# Altium integrated library National Semiconductor Comparator.IntLib: 110 symbols (part 1 of 3)
Pins are listed as number, name and electrical type; pins without a type are passive.

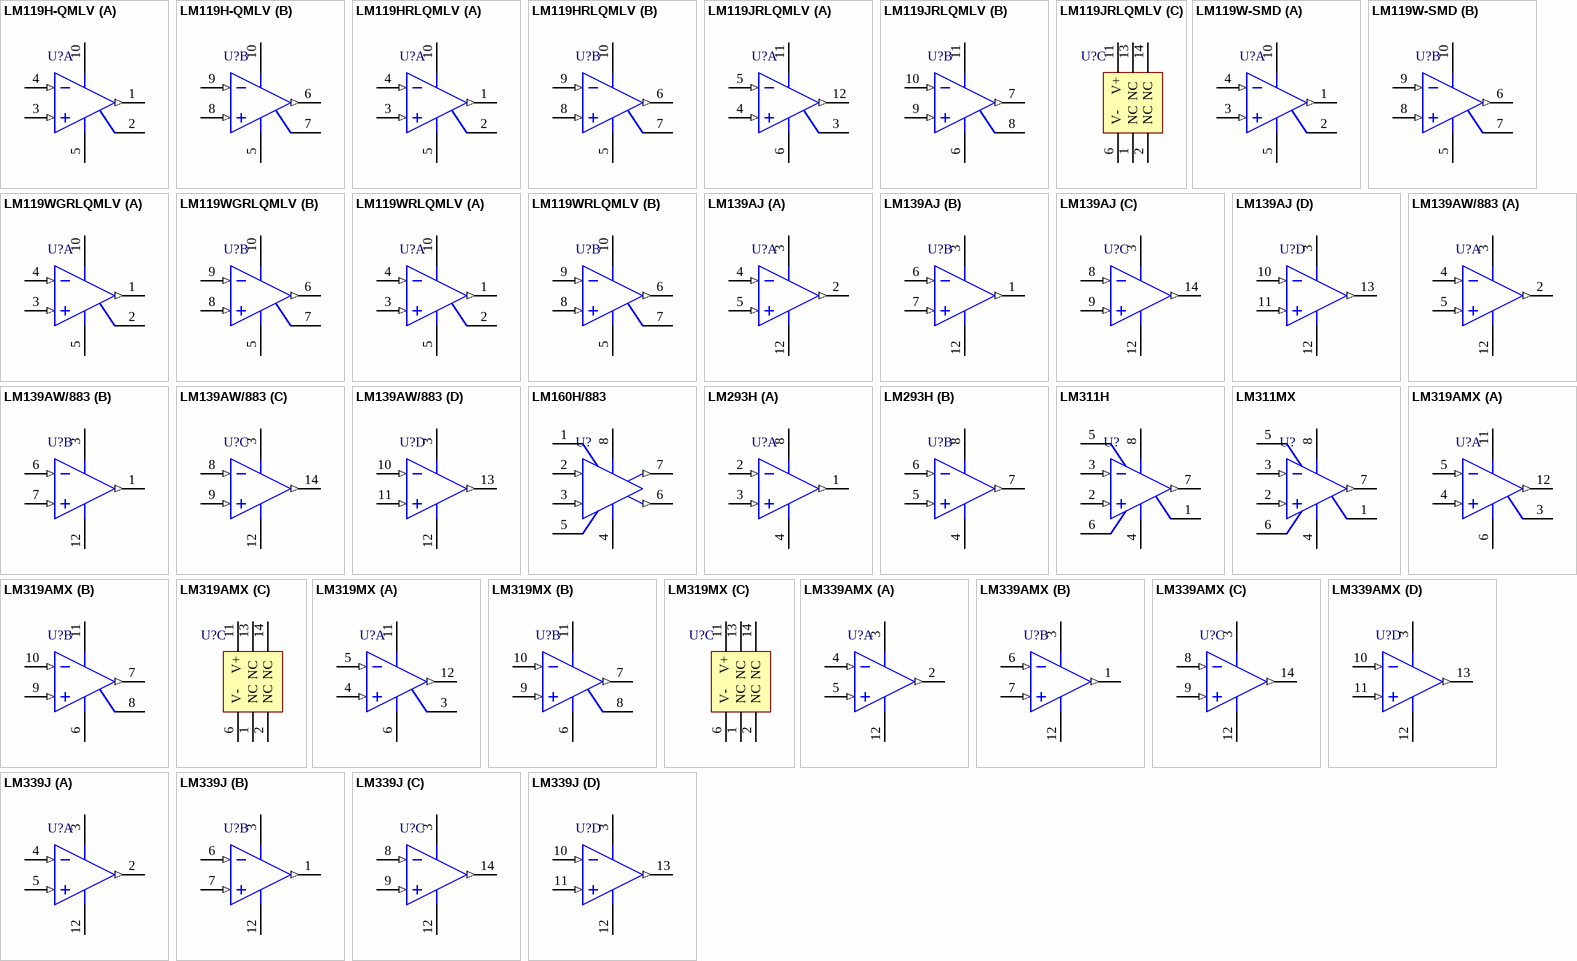
[diagram p0: symbols LM119H-QMLV to LM339J]

## LM119H-QMLV
designator U?
High Speed Dual Comparator, 10-pin TO-100; PartNumber: LM119H-QMLV; Manufacturer: National Semiconductor; PackageTopMarking: NSZSSXXYYA LM119H-QV Q*5962-9679801VIA; PowerWise: N; High-Reliability: Y; DatasheetVersion: Aug-2000; PackageVersion: revG, Nov-2008; PackageReference: H10C; PackageDescription: Metal Can, TO-100, 10 Lead, .230in Dia, P.C.; RoHS: N; PinCount: 10; CompType: Comparator; ComponentLink1Description: Manufacturer URL; ComponentLink1URL: http://www.national.com/; ComponentLink2Description: LM119 Datasheet; ComponentLink2URL: http://www.national.com/ds/LM/LM119QML.pdf; ComponentLink3Description: LM119 Web Page; ComponentLink3URL: http://www.national.com/pf/LM/LM119.html; ComponentLink4Description: H10C Package Page; ComponentLink4URL: http://www.national.com/packaging/folders/h10c.html
footprint H10C (Can; 10 Leads; Pin Circle Dia. 5.84 mm; Lead Dia. 0.48 mm (max))
pins on every part: 5 V- (power), 10 V+ (power)
part A pins: 1 OUT1 (out), 2 GND1 (power), 3 IN1+ (in), 4 IN1- (in)
part B pins: 6 OUT2 (out), 7 GND2 (power), 8 IN2+ (in), 9 IN2- (in)

## LM119HRLQMLV
designator U?
High Speed Dual Comparator, 10-pin TO-100; PartNumber: LM119HRLQMLV; Manufacturer: National Semiconductor; PackageTopMarking: NSZSSXXYYA LM119HRLQV Q*5962R9679802VIA; PowerWise: N; High-Reliability: Y; DatasheetVersion: Aug-2000; PackageVersion: revG, Nov-2008; PackageReference: H10C; PackageDescription: Metal Can, TO-100, 10 Lead, .230in Dia, P.C.; RoHS: N; PinCount: 10; CompType: Comparator; ComponentLink1Description: Manufacturer URL; ComponentLink1URL: http://www.national.com/; ComponentLink2Description: LM119 Datasheet; ComponentLink2URL: http://www.national.com/ds/LM/LM119QML.pdf; ComponentLink3Description: LM119 Web Page; ComponentLink3URL: http://www.national.com/pf/LM/LM119.html; ComponentLink4Description: H10C Package Page; ComponentLink4URL: http://www.national.com/packaging/folders/h10c.html
footprint H10C (Can; 10 Leads; Pin Circle Dia. 5.84 mm; Lead Dia. 0.48 mm (max))
pins on every part: 5 V- (power), 10 V+ (power)
part A pins: 1 OUT1 (out), 2 GND1 (power), 3 IN1+ (in), 4 IN1- (in)
part B pins: 6 OUT2 (out), 7 GND2 (power), 8 IN2+ (in), 9 IN2- (in)

## LM119JRLQMLV
designator U?
High Speed Dual Comparator, 14-pin CerDIP; PartNumber: LM119JRLQMLV; Manufacturer: National Semiconductor; PackageTopMarking: NSZSSXXYYA*LM119JRLQV Q*5962R9679802VCA; PowerWise: N; High-Reliability: Y; DatasheetVersion: Aug-2000; PackageVersion: revJ, Jul-2002; PackageReference: J14A; PackageDescription: Cerdip, .400 x .310in Body, 14 Lead, .300in Centers, .100in Pitch; RoHS: N; PinCount: 14; CompType: Comparator; ComponentLink1Description: Manufacturer URL; ComponentLink1URL: http://www.national.com/; ComponentLink2Description: LM119 Datasheet; ComponentLink2URL: http://www.national.com/ds/LM/LM119QML.pdf; ComponentLink3Description: LM119 Web Page; ComponentLink3URL: http://www.national.com/pf/LM/LM119.html; ComponentLink4Description: J14A Package Page; ComponentLink4URL: http://www.national.com/packaging/folders/j14a.html
footprint J14A (DIP, 14-Leads, Row Spacing 7.62mm, Pitch 2.54mm, Body 19.56x6.73mm)
pins on every part: 6 V- (power), 11 V+ (power)
part A pins: 3 GND1 (power), 4 IN1+ (in), 5 IN1- (in), 12 OUT1 (out)
part B pins: 7 OUT2 (out), 8 GND2 (power), 9 IN2+ (in), 10 IN2- (in)
part C pins: 1 NC, 2 NC, 13 NC, 14 NC

## LM119W-SMD
designator U?
High Speed Dual Comparator, 10-pin CerPACK; PartNumber: LM119W-SMD; Manufacturer: National Semiconductor; PackageTopMarking: NSZSSXXYY*A Q*8601401HA*27014; PowerWise: N; High-Reliability: Y; DatasheetVersion: Aug-2000; PackageVersion: revH, Sep-2003; PackageReference: W10A; PackageDescription: Cerpack, .270 x .241 x .067in Body, 10 Lead, .050in Pitch; RoHS: N; PinCount: 10; CompType: Comparator; Code_JEDEC: MS-033-AA; ComponentLink1Description: Manufacturer URL; ComponentLink1URL: http://www.national.com/; ComponentLink2Description: LM119 Datasheet; ComponentLink2URL: http://www.national.com/ds/LM/LM119QML.pdf; ComponentLink3Description: LM119 Web Page; ComponentLink3URL: http://www.national.com/pf/LM/LM119.html; ComponentLink4Description: W10A Package Page; ComponentLink4URL: http://www.national.com/packaging/folders/w10a.html
footprint W10A (DFP; 10 Leads; Body 6.9 x 6.9 mm (LxW max); Pitch 1.27 mm)
pins on every part: 5 V- (power), 10 V+ (power)
part A pins: 1 OUT1 (out), 2 GND1 (power), 3 IN1+ (in), 4 IN1- (in)
part B pins: 6 OUT2 (out), 7 GND2 (power), 8 IN2+ (in), 9 IN2- (in)

## LM119WGRLQMLV
designator U?
High Speed Dual Comparator, 10-pin CerPACK; PartNumber: LM119WGRLQMLV; Manufacturer: National Semiconductor; PackageTopMarking: NS5962R96*79802VXA*LM119WGR*LQV Q*ZSSXXYYA; PowerWise: N; High-Reliability: Y; DatasheetVersion: Aug-2000; PackageVersion: revF, Oct-2008; PackageReference: WG10A; PackageDescription: Cerpack, .270 x .241 x .070in, 10 Lead, .050in Pitch, Gull Wing; RoHS: N; PinCount: 10; CompType: Comparator; ComponentLink1Description: Manufacturer URL; ComponentLink1URL: http://www.national.com/; ComponentLink2Description: LM119 Datasheet; ComponentLink2URL: http://www.national.com/ds/LM/LM119QML.pdf; ComponentLink3Description: LM119 Web Page; ComponentLink3URL: http://www.national.com/pf/LM/LM119.html; ComponentLink4Description: WG10A Package Page; ComponentLink4URL: http://www.national.com/packaging/folders/wg10a.html
footprint WG10A_N (CERPACK, 10-Leads, Body 6.9x6.3mm, Pitch 1.27mm, IPC Medium Density)
footprint WG10A_L (CERPACK, 10-Leads, Body 6.9x6.3mm, Pitch 1.27mm, IPC High Density)
footprint WG10A_M (CERPACK, 10-Leads, Body 6.9x6.3mm, Pitch 1.27mm, IPC Low Density)
pins on every part: 5 V- (power), 10 V+ (power)
part A pins: 1 OUT1 (out), 2 GND1 (power), 3 IN1+ (in), 4 IN1- (in)
part B pins: 6 OUT2 (out), 7 GND2 (power), 8 IN2+ (in), 9 IN2- (in)

## LM119WRLQMLV
designator U?
High Speed Dual Comparator, 10-pin CerPACK; PartNumber: LM119WRLQMLV; Manufacturer: National Semiconductor; PackageTopMarking: NS5962R96*79802VHA*LM119WRL*QV Q*ZSSXXYYA; PowerWise: N; High-Reliability: Y; DatasheetVersion: Aug-2000; PackageVersion: revH, Sep-2003; PackageReference: W10A; PackageDescription: Cerpack, .270 x .241 x .067in Body, 10 Lead, .050in Pitch; RoHS: N; PinCount: 10; CompType: Comparator; Code_JEDEC: MS-033-AA; ComponentLink1Description: Manufacturer URL; ComponentLink1URL: http://www.national.com/; ComponentLink2Description: LM119 Datasheet; ComponentLink2URL: http://www.national.com/ds/LM/LM119QML.pdf; ComponentLink3Description: LM119 Web Page; ComponentLink3URL: http://www.national.com/pf/LM/LM119.html; ComponentLink4Description: W10A Package Page; ComponentLink4URL: http://www.national.com/packaging/folders/w10a.html
footprint W10A (DFP; 10 Leads; Body 6.9 x 6.9 mm (LxW max); Pitch 1.27 mm)
pins on every part: 5 V- (power), 10 V+ (power)
part A pins: 1 OUT1 (out), 2 GND1 (power), 3 IN1+ (in), 4 IN1- (in)
part B pins: 6 OUT2 (out), 7 GND2 (power), 8 IN2+ (in), 9 IN2- (in)

## LM139AJ
designator U?
Low Power Low Offset Voltage Quad Comparator, 14-pin CerDIP; PartNumber: LM139AJ; Manufacturer: National Semiconductor; PackageTopMarking: NSUZXYYTT*LM139AJ; PowerWise: N; High-Reliability: Y; DatasheetVersion: Mar-2004; PackageVersion: revJ, Jul-2002; PackageReference: J14A; PackageDescription: Cerdip, .400 x .310in Body, 14 Lead, .300in Centers, .100in Pitch; RoHS: N; PinCount: 14; CompType: Comparator; ComponentLink1Description: Manufacturer URL; ComponentLink1URL: http://www.national.com/; ComponentLink2Description: LM139A Datasheet; ComponentLink2URL: http://www.national.com/ds/LM/LM139.pdf; ComponentLink3Description: LM139A Web Page; ComponentLink3URL: http://www.national.com/pf/LM/LM139A.html; ComponentLink4Description: J14A Package Page; ComponentLink4URL: http://www.national.com/packaging/folders/j14a.html
footprint J14A (DIP, 14-Leads, Row Spacing 7.62mm, Pitch 2.54mm, Body 19.56x6.73mm)
pins on every part: 3 V+ (power), 12 GND (power)
part A pins: 2 OUT1 (out), 4 IN1- (in), 5 IN1+ (in)
part B pins: 1 OUT2 (out), 6 IN2- (in), 7 IN2+ (in)
part C pins: 8 IN3- (in), 9 IN3+ (in), 14 OUT3 (out)
part D pins: 10 IN4- (in), 11 IN4+ (in), 13 OUT4 (out)

## LM139AW/883
designator U?
Low Power Low Offset Voltage Quad Comparator, 14 pin CERPACK; PartNumber: LM139AW/883; Manufacturer: National Semiconductor; PackageTopMarking: NSZSSXXYYA*LM139AW/883*Q; PowerWise: N; High-Reliability: Y; DatasheetVersion: Apr-2008; PackageVersion: revP, Jun-2004; PackageReference: W14B; PackageDescription: Cerpack, .390 x .250 x .070in Body, 14 Lead, .050in Pitch; RoHS: N; PinCount: 14; CompType: Comparator; Code_JEDEC: MO-092-AB; ComponentLink1Description: Manufacturer URL; ComponentLink1URL: http://www.national.com/; ComponentLink2Description: LM139A Datasheet; ComponentLink2URL: http://www.national.com/ds/LM/LM139AQML.pdf; ComponentLink3Description: LM139A Web Page; ComponentLink3URL: http://www.national.com/pf/LM/LM139A.html; ComponentLink4Description: W14B Package Page; ComponentLink4URL: http://www.national.com/packaging/folders/w14b.html
footprint W14B (DFP; 14 Leads; Body 9.8 x 7.1 mm (LxW max); Pitch 1.27 mm)
pins on every part: 3 V+ (power), 12 GND (power)
part A pins: 2 OUT1 (out), 4 IN1- (in), 5 IN1+ (in)
part B pins: 1 OUT2 (out), 6 IN2- (in), 7 IN2+ (in)
part C pins: 8 IN3- (in), 9 IN3+ (in), 14 OUT3 (out)
part D pins: 10 IN4- (in), 11 IN4+ (in), 13 OUT4 (out)

## LM160H/883
designator U?
High Speed Differential Comparator, 8-pin TO-99; PartNumber: LM160H/883; Manufacturer: National Semiconductor; PackageTopMarking: NS ZSSXXYYA LM160H/883 Q*5962-8767401GA; PowerWise: N; High-Reliability: Y; DatasheetVersion: Aug-2000; PackageVersion: revF, Jun-1995; PackageReference: H08C; PackageDescription: Metal Can, TO-99, 8 Lead, .200 Dia., P.C.; RoHS: N; PinCount: 8; CompType: Comparator; Code_JEDEC: TO-99; ComponentLink1Description: Manufacturer URL; ComponentLink1URL: http://www.national.com/; ComponentLink2Description: LM160 Datasheet; ComponentLink2URL: http://www.national.com/ds/LM/LM160QML.pdf; ComponentLink3Description: LM160 Web Page; ComponentLink3URL: http://www.national.com/pf/LM/LM160.html; ComponentLink4Description: H08C Package Page; ComponentLink4URL: http://www.national.com/packaging/folders/h08c.html
footprint H08C (Can; 8 Leads; Pin Circle Dia. 5.08 mm; Lead Dia. 0.48 mm (max))
pins: 1 NC, 2 IN2 (in), 3 IN1 (in), 4 V- (power), 5 GND (power), 6 OUT2 (out), 7 OUT1 (out), 8 V+ (power)

## LM293H
designator U?
Low Power Low Offset Voltage Dual Comparator, 8-pin TO-99; PartNumber: LM293H; Manufacturer: National Semiconductor; PackageTopMarking: NSZXYTTE# LM293H; PowerWise: N; High-Reliability: Y; DatasheetVersion: Aug-2002; PackageVersion: revF, Jun-1995; PackageReference: H08C; PackageDescription: Metal Can, TO-99, 8 Lead, .200 Dia., P.C.; RoHS: N; PinCount: 8; CompType: Comparator; Code_JEDEC: TO-99; ComponentLink1Description: Manufacturer URL; ComponentLink1URL: http://www.national.com/; ComponentLink2Description: LM293 Datasheet; ComponentLink2URL: http://www.national.com/ds/LM/LM293.pdf; ComponentLink3Description: LM293 Web Page; ComponentLink3URL: http://www.national.com/pf/LM/LM293.html; ComponentLink4Description: H08C Package Page; ComponentLink4URL: http://www.national.com/packaging/folders/h08c.html
footprint H08C (Can; 8 Leads; Pin Circle Dia. 5.08 mm; Lead Dia. 0.48 mm (max))
pins on every part: 4 GND (power), 8 V+ (power)
part A pins: 1 OUTA (out), 2 INA- (in), 3 INA+ (in)
part B pins: 5 INB+ (in), 6 INB- (in), 7 OUTB (out)

## LM311H
designator U?
Voltage Comparator, 8-pin TO-99; PartNumber: LM311H; Manufacturer: National Semiconductor; PackageTopMarking: NSZXYTTE# LM311H; PowerWise: N; High-Reliability: Y; DatasheetVersion: Jan-2001; PackageVersion: revF, Jun-1995; PackageReference: H08C; PackageDescription: Metal Can, TO-99, 8 Lead, .200 Dia., P.C.; RoHS: N; PinCount: 8; CompType: Comparator; Code_JEDEC: TO-99; ComponentLink1Description: Manufacturer URL; ComponentLink1URL: http://www.national.com/; ComponentLink2Description: LM311 Datasheet; ComponentLink2URL: http://www.national.com/ds/LM/LM311.pdf; ComponentLink3Description: LM311 Web Page; ComponentLink3URL: http://www.national.com/pf/LM/LM311.html; ComponentLink4Description: H08C Package Page; ComponentLink4URL: http://www.national.com/packaging/folders/h08c.html
footprint H08C (Can; 8 Leads; Pin Circle Dia. 5.08 mm; Lead Dia. 0.48 mm (max))
pins: 1 GND (power), 2 IN+ (in), 3 IN- (in), 4 V- (power), 5 BAL, 6 BAL/STB, 7 OUT (out), 8 V+ (power)

## LM311MX
designator U?
Voltage Comparator, 8-pin Narrow SOIC; PartNumber: LM311MX; Manufacturer: National Semiconductor; PackageTopMarking: NSZXTT*LM*311M; PowerWise: N; High-Reliability: Y; DatasheetVersion: Jan-2001; PackageVersion: revM, May-2009; PackageReference: M08A; PackageDescription: SOIC Narrow, 4.9 x 3.9 x 1.45mm, 8 Lead, 1.27mm Pitch; RoHS: N; PinCount: 8; CompType: Comparator; Code_JEDEC: MS-012-AA; Code_IPC: SOIC127P600-8; ComponentLink1Description: Manufacturer URL; ComponentLink1URL: http://www.national.com/; ComponentLink2Description: LM311 Datasheet; ComponentLink2URL: http://www.national.com/ds/LM/LM311.pdf; ComponentLink3Description: LM311 Web Page; ComponentLink3URL: http://www.national.com/pf/LM/LM311.html; ComponentLink4Description: M08A Package Page; ComponentLink4URL: http://www.national.com/packaging/folders/m08a.html
footprint M08A_N (SOIC, 8-Leads, Body 4.9x3.9mm, Pitch 1.27mm, IPC Medium Density)
footprint M08A_L (SOIC, 8-Leads, Body 4.9x3.9mm, Pitch 1.27mm, IPC High Density)
footprint M08A_M (SOIC, 8-Leads, Body 4.9x3.9mm, Pitch 1.27mm, IPC Low Density)
pins: 1 GND (power), 2 IN+ (in), 3 IN- (in), 4 V- (power), 5 BAL, 6 BAL/STB, 7 OUT (out), 8 V+ (power)

## LM319AMX
designator U?
High Speed Dual Comparator, 14-pin Narrow SOIC; PartNumber: LM319AMX; Manufacturer: National Semiconductor; PackageTopMarking: NSUZXYTTE#*LM319AM; PowerWise: N; High-Reliability: Y; DatasheetVersion: Aug-2000; PackageVersion: revJ, Jan-1996; PackageReference: M14A; PackageDescription: Molded Package S.O., .150in Wide, 14 Lead; RoHS: N; PinCount: 14; CompType: Comparator; Code_JEDEC: MS-012AB; Code_IPC: SOIC127P600-14; ComponentLink1Description: Manufacturer URL; ComponentLink1URL: http://www.national.com/; ComponentLink2Description: LM319 Datasheet; ComponentLink2URL: http://www.national.com/ds/LM/LM319.pdf; ComponentLink3Description: LM319 Web Page; ComponentLink3URL: http://www.national.com/pf/LM/LM319.html; ComponentLink4Description: M14A Package Page; ComponentLink4URL: http://www.national.com/packaging/folders/m14a.html
footprint M14A_N (SOIC, 14-Leads, Body 8.6x3.9mm, Pitch 1.27mm, IPC Medium Density)
footprint M14A_L (SOIC, 14-Leads, Body 8.6x3.9mm, Pitch 1.27mm, IPC High Density)
footprint M14A_M (SOIC, 14-Leads, Body 8.6x3.9mm, Pitch 1.27mm, IPC Low Density)
pins on every part: 6 V- (power), 11 V+ (power)
part A pins: 3 GND1 (power), 4 IN1+ (in), 5 IN1- (in), 12 OUT1 (out)
part B pins: 7 OUT2 (out), 8 GND2 (power), 9 IN2+ (in), 10 IN2- (in)
part C pins: 1 NC, 2 NC, 13 NC, 14 NC

## LM319MX
designator U?
High Speed Dual Comparator, 14-pin Narrow SOIC; PartNumber: LM319MX; Manufacturer: National Semiconductor; PackageTopMarking: NSUZXYTTE#*LM319M; PowerWise: N; High-Reliability: Y; DatasheetVersion: Aug-2000; PackageVersion: revJ, Jan-1996; PackageReference: M14A; PackageDescription: Molded Package S.O., .150in Wide, 14 Lead; RoHS: N; PinCount: 14; CompType: Comparator; Code_JEDEC: MS-012AB; Code_IPC: SOIC127P600-14; ComponentLink1Description: Manufacturer URL; ComponentLink1URL: http://www.national.com/; ComponentLink2Description: LM319 Datasheet; ComponentLink2URL: http://www.national.com/ds/LM/LM319.pdf; ComponentLink3Description: LM319 Web Page; ComponentLink3URL: http://www.national.com/pf/LM/LM319.html; ComponentLink4Description: M14A Package Page; ComponentLink4URL: http://www.national.com/packaging/folders/m14a.html
footprint M14A_N (SOIC, 14-Leads, Body 8.6x3.9mm, Pitch 1.27mm, IPC Medium Density)
footprint M14A_L (SOIC, 14-Leads, Body 8.6x3.9mm, Pitch 1.27mm, IPC High Density)
footprint M14A_M (SOIC, 14-Leads, Body 8.6x3.9mm, Pitch 1.27mm, IPC Low Density)
pins on every part: 6 V- (power), 11 V+ (power)
part A pins: 3 GND1 (power), 4 IN1+ (in), 5 IN1- (in), 12 OUT1 (out)
part B pins: 7 OUT2 (out), 8 GND2 (power), 9 IN2+ (in), 10 IN2- (in)
part C pins: 1 NC, 2 NC, 13 NC, 14 NC

## LM339AMX
designator U?
Low Power Low Offset Voltage Quad Comparator, 14-pin Narrow SOIC; PartNumber: LM339AMX; Manufacturer: National Semiconductor; PackageTopMarking: NSUZXYTTE#*LM339AM; PowerWise: N; High-Reliability: Y; DatasheetVersion: Mar-2004; PackageVersion: revJ, Jan-1996; PackageReference: M14A; PackageDescription: Molded Package S.O., .150in Wide, 14 Lead; RoHS: N; PinCount: 14; CompType: Comparator; Code_JEDEC: MS-012AB; Code_IPC: SOIC127P600-14; ComponentLink1Description: Manufacturer URL; ComponentLink1URL: http://www.national.com/; ComponentLink2Description: LM339 Datasheet; ComponentLink2URL: http://www.national.com/ds/LM/LM339.pdf; ComponentLink3Description: LM339 Web Page; ComponentLink3URL: http://www.national.com/pf/LM/LM339.html; ComponentLink4Description: M14A Package Page; ComponentLink4URL: http://www.national.com/packaging/folders/m14a.html
footprint M14A_N (SOIC, 14-Leads, Body 8.6x3.9mm, Pitch 1.27mm, IPC Medium Density)
footprint M14A_L (SOIC, 14-Leads, Body 8.6x3.9mm, Pitch 1.27mm, IPC High Density)
footprint M14A_M (SOIC, 14-Leads, Body 8.6x3.9mm, Pitch 1.27mm, IPC Low Density)
pins on every part: 3 V+ (power), 12 GND (power)
part A pins: 2 OUT1 (out), 4 IN1- (in), 5 IN1+ (in)
part B pins: 1 OUT2 (out), 6 IN2- (in), 7 IN2+ (in)
part C pins: 8 IN3- (in), 9 IN3+ (in), 14 OUT3 (out)
part D pins: 10 IN4- (in), 11 IN4+ (in), 13 OUT4 (out)

## LM339J
designator U?
Low Power Low Offset Voltage Quad Comparator, 14-pin CerDIP; PartNumber: LM339J; Manufacturer: National Semiconductor; PackageTopMarking: NSUZXYYTT*LM339J; PowerWise: N; High-Reliability: Y; DatasheetVersion: Mar-2004; PackageVersion: revJ, Jul-2002; PackageReference: J14A; PackageDescription: Cerdip, .400 x .310in Body, 14 Lead, .300in Centers, .100in Pitch; RoHS: N; PinCount: 14; CompType: Comparator; ComponentLink1Description: Manufacturer URL; ComponentLink1URL: http://www.national.com/; ComponentLink2Description: LM339 Datasheet; ComponentLink2URL: http://www.national.com/ds/LM/LM339.pdf; ComponentLink3Description: LM339 Web Page; ComponentLink3URL: http://www.national.com/pf/LM/LM339.html; ComponentLink4Description: J14A Package Page; ComponentLink4URL: http://www.national.com/packaging/folders/j14a.html
footprint J14A (DIP, 14-Leads, Row Spacing 7.62mm, Pitch 2.54mm, Body 19.56x6.73mm)
pins on every part: 3 V+ (power), 12 GND (power)
part A pins: 2 OUT1 (out), 4 IN1- (in), 5 IN1+ (in)
part B pins: 1 OUT2 (out), 6 IN2- (in), 7 IN2+ (in)
part C pins: 8 IN3- (in), 9 IN3+ (in), 14 OUT3 (out)
part D pins: 10 IN4- (in), 11 IN4+ (in), 13 OUT4 (out)

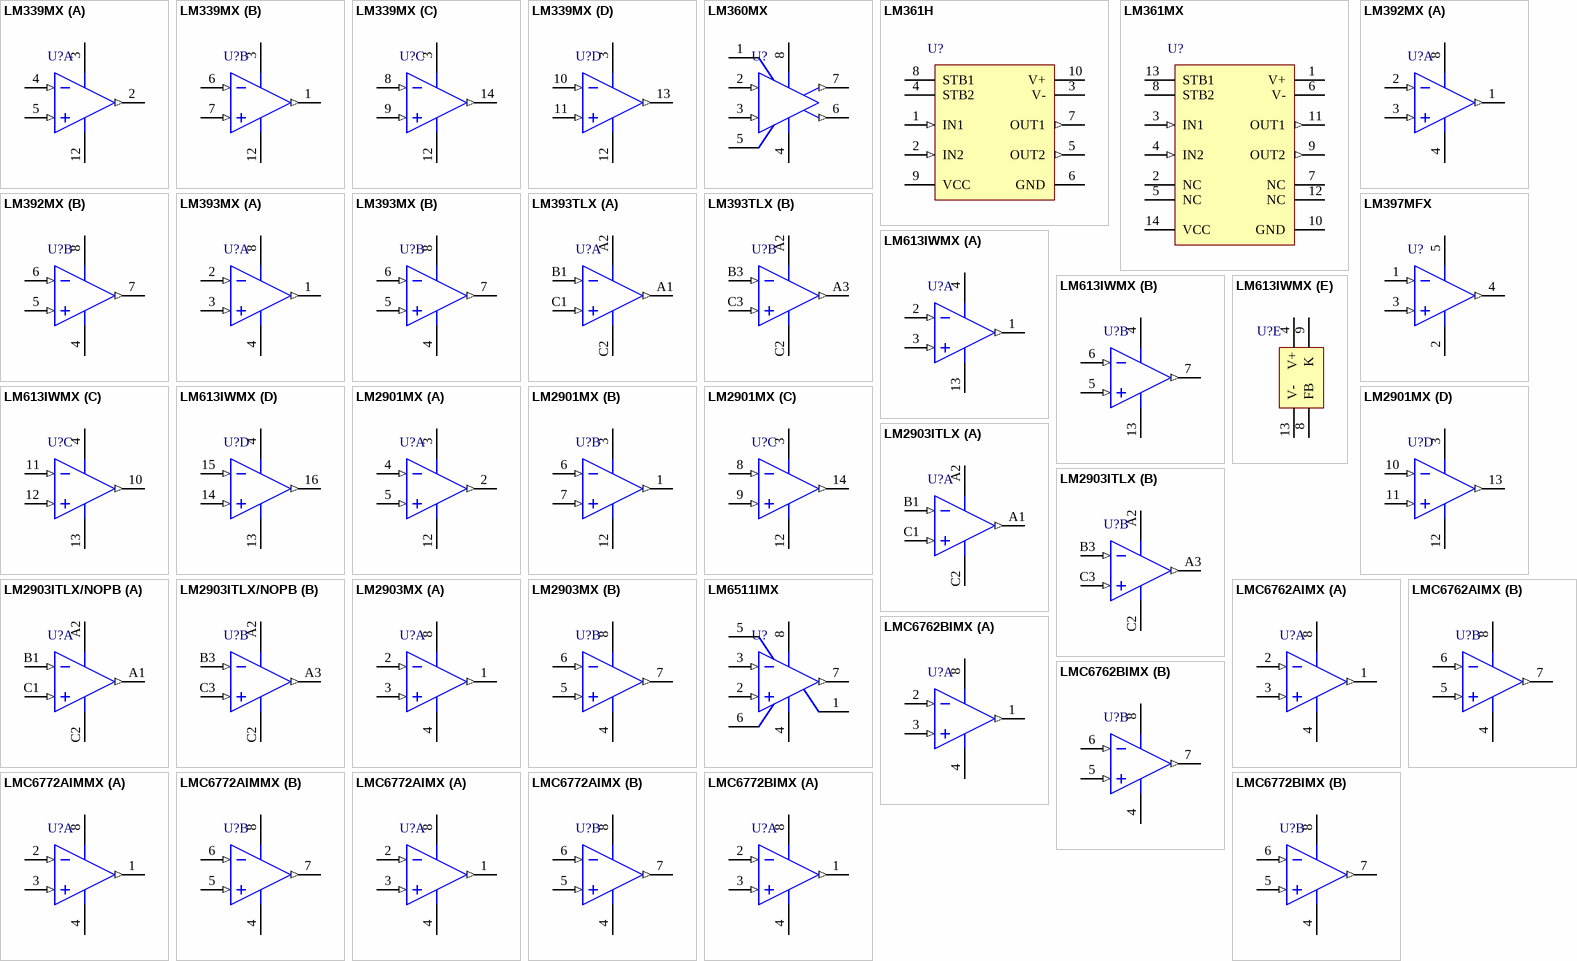
[diagram p1: symbols LM339MX to LMC6772BIMX]

## LM339MX
designator U?
Low Power Low Offset Voltage Quad Comparator, 14-pin Narrow SOIC; PartNumber: LM339MX; Manufacturer: National Semiconductor; PackageTopMarking: NSUZXYTTE#*LM339M; PowerWise: N; High-Reliability: Y; DatasheetVersion: Mar-2004; PackageVersion: revJ, Jan-1996; PackageReference: M14A; PackageDescription: Molded Package S.O., .150in Wide, 14 Lead; RoHS: N; PinCount: 14; CompType: Comparator; Code_JEDEC: MS-012AB; Code_IPC: SOIC127P600-14; ComponentLink1Description: Manufacturer URL; ComponentLink1URL: http://www.national.com/; ComponentLink2Description: LM339 Datasheet; ComponentLink2URL: http://www.national.com/ds/LM/LM339.pdf; ComponentLink3Description: LM339 Web Page; ComponentLink3URL: http://www.national.com/pf/LM/LM339.html; ComponentLink4Description: M14A Package Page; ComponentLink4URL: http://www.national.com/packaging/folders/m14a.html
footprint M14A_N (SOIC, 14-Leads, Body 8.6x3.9mm, Pitch 1.27mm, IPC Medium Density)
footprint M14A_L (SOIC, 14-Leads, Body 8.6x3.9mm, Pitch 1.27mm, IPC High Density)
footprint M14A_M (SOIC, 14-Leads, Body 8.6x3.9mm, Pitch 1.27mm, IPC Low Density)
pins on every part: 3 V+ (power), 12 GND (power)
part A pins: 2 OUT1 (out), 4 IN1- (in), 5 IN1+ (in)
part B pins: 1 OUT2 (out), 6 IN2- (in), 7 IN2+ (in)
part C pins: 8 IN3- (in), 9 IN3+ (in), 14 OUT3 (out)
part D pins: 10 IN4- (in), 11 IN4+ (in), 13 OUT4 (out)

## LM360MX
designator U?
High Speed Differential Comparator, 8-pin Narrow SOIC; PartNumber: LM360MX; Manufacturer: National Semiconductor; PackageTopMarking: NSZXTT*LM*360M; PowerWise: N; High-Reliability: Y; DatasheetVersion: Aug-2000; PackageVersion: revM, May-2009; PackageReference: M08A; PackageDescription: SOIC Narrow, 4.9 x 3.9 x 1.45mm, 8 Lead, 1.27mm Pitch; RoHS: N; PinCount: 8; CompType: Comparator; Code_JEDEC: MS-012-AA; Code_IPC: SOIC127P600-8; ComponentLink1Description: Manufacturer URL; ComponentLink1URL: http://www.national.com/; ComponentLink2Description: LM360 Datasheet; ComponentLink2URL: http://www.national.com/ds/LM/LM360.pdf; ComponentLink3Description: LM360 Web Page; ComponentLink3URL: http://www.national.com/pf/LM/LM360.html; ComponentLink4Description: M08A Package Page; ComponentLink4URL: http://www.national.com/packaging/folders/m08a.html
footprint M08A_N (SOIC, 8-Leads, Body 4.9x3.9mm, Pitch 1.27mm, IPC Medium Density)
footprint M08A_L (SOIC, 8-Leads, Body 4.9x3.9mm, Pitch 1.27mm, IPC High Density)
footprint M08A_M (SOIC, 8-Leads, Body 4.9x3.9mm, Pitch 1.27mm, IPC Low Density)
pins: 1 NC, 2 IN2 (in), 3 IN1 (in), 4 V- (power), 5 GND (power), 6 OUT2 (out), 7 OUT1 (out), 8 V+ (power)

## LM361H
designator U?
High Speed Differential Comparator, 10-pin TO-100; PartNumber: LM361H; Manufacturer: National Semiconductor; PackageTopMarking: NSZXYTTE# LM361H; PowerWise: N; High-Reliability: Y; DatasheetVersion: Aug-2000; PackageVersion: revG, Nov-2008; PackageReference: H10C; PackageDescription: Metal Can, TO-100, 10 Lead, .230in Dia, P.C.; RoHS: N; PinCount: 10; CompType: Comparator; ComponentLink1Description: Manufacturer URL; ComponentLink1URL: http://www.national.com/; ComponentLink2Description: LM361 Datasheet; ComponentLink2URL: http://www.national.com/ds/LM/LM361.pdf; ComponentLink3Description: LM361 Web Page; ComponentLink3URL: http://www.national.com/pf/LM/LM361.html; ComponentLink4Description: H10C Package Page; ComponentLink4URL: http://www.national.com/packaging/folders/h10c.html
footprint H10C (Can; 10 Leads; Pin Circle Dia. 5.84 mm; Lead Dia. 0.48 mm (max))
pins: 1 IN1 (in), 2 IN2 (in), 3 V- (power), 4 STB2 (power), 5 OUT2 (out), 6 GND (power), 7 OUT1 (out), 8 STB1 (power), 9 VCC (power), 10 V+ (power)

## LM361MX
designator U?
High Speed Differential Comparator, 14-pin Narrow SOIC; PartNumber: LM361MX; Manufacturer: National Semiconductor; PackageTopMarking: NSUZXYTTE#*LM361M; PowerWise: N; High-Reliability: Y; DatasheetVersion: Aug-2000; PackageVersion: revJ, Jan-1996; PackageReference: M14A; PackageDescription: Molded Package S.O., .150in Wide, 14 Lead; RoHS: N; PinCount: 14; CompType: Comparator; Code_JEDEC: MS-012AB; Code_IPC: SOIC127P600-14; ComponentLink1Description: Manufacturer URL; ComponentLink1URL: http://www.national.com/; ComponentLink2Description: LM361 Datasheet; ComponentLink2URL: http://www.national.com/ds/LM/LM361.pdf; ComponentLink3Description: LM361 Web Page; ComponentLink3URL: http://www.national.com/pf/LM/LM361.html; ComponentLink4Description: M14A Package Page; ComponentLink4URL: http://www.national.com/packaging/folders/m14a.html
footprint M14A_N (SOIC, 14-Leads, Body 8.6x3.9mm, Pitch 1.27mm, IPC Medium Density)
footprint M14A_L (SOIC, 14-Leads, Body 8.6x3.9mm, Pitch 1.27mm, IPC High Density)
footprint M14A_M (SOIC, 14-Leads, Body 8.6x3.9mm, Pitch 1.27mm, IPC Low Density)
pins: 1 V+ (power), 2 NC, 3 IN1 (in), 4 IN2 (in), 5 NC, 6 V- (power), 7 NC, 8 STB2 (power), 9 OUT2 (out), 10 GND (power), 11 OUT1 (out), 12 NC, 13 STB1 (power), 14 VCC (power)

## LM392MX
designator U?
Low Power Operational Amplifier/Voltage Comparator, 8-pin Narrow SOIC; PartNumber: LM392MX; Manufacturer: National Semiconductor; PackageTopMarking: NSZXTT*LM392*M; PowerWise: N; High-Reliability: Y; DatasheetVersion: Aug-2000; PackageVersion: revM, May-2009; PackageReference: M08A; PackageDescription: SOIC Narrow, 4.9 x 3.9 x 1.45mm, 8 Lead, 1.27mm Pitch; RoHS: N; PinCount: 8; CompType: Comparator; Code_JEDEC: MS-012-AA; Code_IPC: SOIC127P600-8; ComponentLink1Description: Manufacturer URL; ComponentLink1URL: http://www.national.com/; ComponentLink2Description: LM392 Datasheet; ComponentLink2URL: http://www.national.com/ds/LM/LM392.pdf; ComponentLink3Description: LM392 Web Page; ComponentLink3URL: http://www.national.com/pf/LM/LM392.html; ComponentLink4Description: M08A Package Page; ComponentLink4URL: http://www.national.com/packaging/folders/m08a.html
footprint M08A_N (SOIC, 8-Leads, Body 4.9x3.9mm, Pitch 1.27mm, IPC Medium Density)
footprint M08A_L (SOIC, 8-Leads, Body 4.9x3.9mm, Pitch 1.27mm, IPC High Density)
footprint M08A_M (SOIC, 8-Leads, Body 4.9x3.9mm, Pitch 1.27mm, IPC Low Density)
pins on every part: 4 GND (power), 8 V+ (power)
part A pins: 1 OUTA (out), 2 INA- (in), 3 INA+ (in)
part B pins: 5 INB+ (in), 6 INB- (in), 7 OUTB (out)

## LM393MX
designator U?
Low Power Low Offset Voltage Dual Comparator, 8-pin Narrow SOIC; PartNumber: LM393MX; Manufacturer: National Semiconductor; PackageTopMarking: NSZXTT*LM*393M; PowerWise: N; High-Reliability: Y; DatasheetVersion: Aug-2002; PackageVersion: revM, May-2009; PackageReference: M08A; PackageDescription: SOIC Narrow, 4.9 x 3.9 x 1.45mm, 8 Lead, 1.27mm Pitch; RoHS: N; PinCount: 8; CompType: Comparator; Code_JEDEC: MS-012-AA; Code_IPC: SOIC127P600-8; ComponentLink1Description: Manufacturer URL; ComponentLink1URL: http://www.national.com/; ComponentLink2Description: LM393 Datasheet; ComponentLink2URL: http://www.national.com/ds/LM/LM393.pdf; ComponentLink3Description: LM393 Web Page; ComponentLink3URL: http://www.national.com/pf/LM/LM393.html; ComponentLink4Description: M08A Package Page; ComponentLink4URL: http://www.national.com/packaging/folders/m08a.html
footprint M08A_N (SOIC, 8-Leads, Body 4.9x3.9mm, Pitch 1.27mm, IPC Medium Density)
footprint M08A_L (SOIC, 8-Leads, Body 4.9x3.9mm, Pitch 1.27mm, IPC High Density)
footprint M08A_M (SOIC, 8-Leads, Body 4.9x3.9mm, Pitch 1.27mm, IPC Low Density)
pins on every part: 4 GND (power), 8 V+ (power)
part A pins: 1 OUTA (out), 2 INA- (in), 3 INA+ (in)
part B pins: 5 INB+ (in), 6 INB- (in), 7 OUTB (out)

## LM393TLX
designator U?
Low Power Low Offset Voltage Dual Comparator, 8-pin Micro SMD; PartNumber: LM393TLX; Manufacturer: National Semiconductor; PackageTopMarking: XVC*I 02; PowerWise: Y; DatasheetVersion: Aug-2002; PackageVersion: revC, Jan-2004; PackageReference: TLA08AAA; PackageDescription: Thin Micro SMD, 8 Bump (Large), 0.5mm Pitch; RoHS: Y; PinCount: 8; CompType: Comparator; High-Reliability: Y; ComponentLink1Description: Manufacturer URL; ComponentLink1URL: http://www.national.com/; ComponentLink2Description: LM393 Datasheet; ComponentLink2URL: http://www.national.com/ds/LM/LM393.pdf; ComponentLink3Description: LM393  Web Page; ComponentLink3URL: http://www.national.com/pf/LM/LM393.html; ComponentLink4Description: TLA08AAA Package Page; ComponentLink4URL: http://www.national.com/packaging/folders/tla08aaa.html
footprint TLA08AAA (Micro SMD, 8-Leads, Body 1.52x1.52mm, Pitch 0.5mm, NSC Recommended)
pins on every part: A2 V+ (power), C2 GND (power)
part A pins: A1 OUTA (out), B1 INA- (in), C1 INA+ (in)
part B pins: A3 OUTB (out), B3 INB- (in), C3 INB+ (in)

## LM397MFX
designator U?
Single General Purpose Voltage Comparator, 5-pin SOT-23; PartNumber: LM397MFX; Manufacturer: National Semiconductor; PackageTopMarking: C397*XTT; PowerWise: N; High-Reliability: Y; DatasheetVersion: Aug-2006; PackageVersion: revD, Aug-2008; PackageReference: MF05A; PackageDescription: Molded SOT-23, .115 x .063 x .040 in Body, 5 Lead, .0375 in Pitch; RoHS: N; PinCount: 5; CompType: Comparator; ComponentLink1Description: Manufacturer URL; ComponentLink1URL: http://www.national.com/; ComponentLink2Description: LM397 Datasheet; ComponentLink2URL: http://www.national.com/ds/LM/LM397.pdf; ComponentLink3Description: LM397 Web Page; ComponentLink3URL: http://www.national.com/pf/LM/LM397.html; ComponentLink4Description: MF05A Package Page; ComponentLink4URL: http://www.national.com/packaging/folders/mf05a.html
footprint MF05A_N (SOT23, 5-Leads, Body 2.9x1.6mm, Pitch 0.95mm, Lead Span 2.8mm, IPC Medium Density)
footprint MF05A_L (SOT23, 5-Leads, Body 2.9x1.6mm, Pitch 0.95mm, Lead Span 2.8mm, IPC High Density)
footprint MF05A_M (SOT23, 5-Leads, Body 2.9x1.6mm, Pitch 0.95mm, Lead Span 2.8mm, IPC Low Density)
pins: 1 IN- (in), 2 GND (power), 3 IN+ (in), 4 OUT (out), 5 VS (power)

## LM613IWMX
designator U?
Dual Operational Amplifier, Dual Comparator and Adjustable Reference, 16-pin Wide SOIC; PartNumber: LM613IWMX; Manufacturer: National Semiconductor; PackageTopMarking: NSUZXYTTE#*LM613IWM; PowerWise: N; High-Reliability: Y; DatasheetVersion: Aug-2000; PackageVersion: revF, Apr-1990; PackageReference: M16B; PackageDescription: Molded Package, S.O., .300in Wide, 16 Lead; RoHS: N; PinCount: 16; CompType: Comparator; Code_JEDEC: MS-013-AA; Code_IPC: SOIC127P1030-16; ComponentLink1Description: Manufacturer URL; ComponentLink1URL: http://www.national.com/; ComponentLink2Description: LM613 Datasheet; ComponentLink2URL: http://www.national.com/ds/LM/LM613.pdf; ComponentLink3Description: LM613 Web Page; ComponentLink3URL: http://www.national.com/pf/LM/LM613.html; ComponentLink4Description: M16B Package Page; ComponentLink4URL: http://www.national.com/packaging/folders/m16b.html
footprint M16B_N (SOIC, 16-Leads, Body 10.3x7.5mm, Pitch 1.27mm, IPC Medium Density)
footprint M16B_L (SOIC, 16-Leads, Body 10.3x7.5mm, Pitch 1.27mm, IPC High Density)
footprint M16B_M (SOIC, 16-Leads, Body 10.3x7.5mm, Pitch 1.27mm, IPC Low Density)
pins on every part: 4 V+ (power), 13 V- (power)
part A pins: 1 OUT1 (out), 2 IN1- (in), 3 IN1+ (in)
part B pins: 5 IN2+ (in), 6 IN2- (in), 7 OUT2 (out)
part C pins: 10 OUT3 (out), 11 IN3- (in), 12 IN3+ (in)
part D pins: 14 IN4+ (in), 15 IN4- (in), 16 OUT4 (out)
part E pins: 8 FB, 9 K

## LM2901MX
designator U?
Low Power Low Offset Voltage Quad Comparator, 14-pin Narrow SOIC; PartNumber: LM2901MX; Manufacturer: National Semiconductor; PackageTopMarking: NSUZXYTTE#*LM2901M; PowerWise: N; High-Reliability: Y; DatasheetVersion: Mar-2004; PackageVersion: revJ, Jan-1996; PackageReference: M14A; PackageDescription: Molded Package S.O., .150in Wide, 14 Lead; RoHS: N; PinCount: 14; CompType: Comparator; Code_JEDEC: MS-012AB; Code_IPC: SOIC127P600-14; ComponentLink1Description: Manufacturer URL; ComponentLink1URL: http://www.national.com/; ComponentLink2Description: LM2901 Datasheet; ComponentLink2URL: http://www.national.com/ds/LM/LM2901.pdf; ComponentLink3Description: LM2901 Web Page; ComponentLink3URL: http://www.national.com/pf/LM/LM2901.html; ComponentLink4Description: M14A Package Page; ComponentLink4URL: http://www.national.com/packaging/folders/m14a.html
footprint M14A_N (SOIC, 14-Leads, Body 8.6x3.9mm, Pitch 1.27mm, IPC Medium Density)
footprint M14A_L (SOIC, 14-Leads, Body 8.6x3.9mm, Pitch 1.27mm, IPC High Density)
footprint M14A_M (SOIC, 14-Leads, Body 8.6x3.9mm, Pitch 1.27mm, IPC Low Density)
pins on every part: 3 V+ (power), 12 GND (power)
part A pins: 2 OUT1 (out), 4 IN1- (in), 5 IN1+ (in)
part B pins: 1 OUT2 (out), 6 IN2- (in), 7 IN2+ (in)
part C pins: 8 IN3- (in), 9 IN3+ (in), 14 OUT3 (out)
part D pins: 10 IN4- (in), 11 IN4+ (in), 13 OUT4 (out)

## LM2903ITLX
designator U?
Low Power Low Offset Voltage Dual Comparator, 8-pin Micro SMD; PartNumber: LM2903ITLX; Manufacturer: National Semiconductor; PackageTopMarking: XVC*I 03; PowerWise: Y; DatasheetVersion: Aug-2002; PackageVersion: revC, Jan-2004; PackageReference: TLA08AAA; PackageDescription: Thin Micro SMD, 8 Bump (Large), 0.5mm Pitch; RoHS: N; PinCount: 8; CompType: Comparator; High-Reliability: Y; ComponentLink1Description: Manufacturer URL; ComponentLink1URL: http://www.national.com/; ComponentLink2Description: LM2903 Datasheet; ComponentLink2URL: http://www.national.com/ds/LM/LM2903.pdf; ComponentLink3Description: LM2903  Web Page; ComponentLink3URL: http://www.national.com/pf/LM/LM2903.html; ComponentLink4Description: TLA08AAA Package Page; ComponentLink4URL: http://www.national.com/packaging/folders/tla08aaa.html
footprint TLA08AAA (Micro SMD, 8-Leads, Body 1.52x1.52mm, Pitch 0.5mm, NSC Recommended)
pins on every part: A2 V+ (power), C2 GND (power)
part A pins: A1 OUTA (out), B1 INA- (in), C1 INA+ (in)
part B pins: A3 OUTB (out), B3 INB- (in), C3 INB+ (in)

## LM2903ITLX/NOPB
designator U?
Low Power Low Offset Voltage Dual Comparator, 8-pin Micro SMD, Pb-Free; PartNumber: LM2903ITLX/NOPB; Manufacturer: National Semiconductor; PackageTopMarking: XVC*I 03; PowerWise: N; High-Reliability: Y; DatasheetVersion: Aug-2002; PackageVersion: revC, Jan-2004; PackageReference: TLA08AAA; PackageDescription: Thin Micro SMD, 8 Bump (Large), 0.5mm Pitch; RoHS: Y; PinCount: 8; CompType: Comparator; ComponentLink1Description: Manufacturer URL; ComponentLink1URL: http://www.national.com/; ComponentLink2Description: LM2903 Datasheet; ComponentLink2URL: http://www.national.com/ds/LM/LM2903.pdf; ComponentLink3Description: LM2903 Web Page; ComponentLink3URL: http://www.national.com/pf/LM/LM2903.html; ComponentLink4Description: TLA08AAA Package Page; ComponentLink4URL: http://www.national.com/packaging/folders/tla08aaa.html
footprint TLA08AAA (Micro SMD, 8-Leads, Body 1.52x1.52mm, Pitch 0.5mm, NSC Recommended)
pins on every part: A2 V+ (power), C2 GND (power)
part A pins: A1 OUTA (out), B1 INA- (in), C1 INA+ (in)
part B pins: A3 OUTB (out), B3 INB- (in), C3 INB+ (in)

## LM2903MX
designator U?
Low Power Low Offset Voltage Dual Comparator, 8-pin Narrow SOIC; PartNumber: LM2903MX; Manufacturer: National Semiconductor; PackageTopMarking: NSZXTT*LM*2903M; PowerWise: N; High-Reliability: Y; DatasheetVersion: Aug-2002; PackageVersion: revM, May-2009; PackageReference: M08A; PackageDescription: SOIC Narrow, 4.9 x 3.9 x 1.45mm, 8 Lead, 1.27mm Pitch; RoHS: N; PinCount: 8; CompType: Comparator; Code_JEDEC: MS-012-AA; Code_IPC: SOIC127P600-8; ComponentLink1Description: Manufacturer URL; ComponentLink1URL: http://www.national.com/; ComponentLink2Description: LM2903 Datasheet; ComponentLink2URL: http://www.national.com/ds/LM/LM2903.pdf; ComponentLink3Description: LM2903 Web Page; ComponentLink3URL: http://www.national.com/pf/LM/LM2903.html; ComponentLink4Description: M08A Package Page; ComponentLink4URL: http://www.national.com/packaging/folders/m08a.html
footprint M08A_N (SOIC, 8-Leads, Body 4.9x3.9mm, Pitch 1.27mm, IPC Medium Density)
footprint M08A_L (SOIC, 8-Leads, Body 4.9x3.9mm, Pitch 1.27mm, IPC High Density)
footprint M08A_M (SOIC, 8-Leads, Body 4.9x3.9mm, Pitch 1.27mm, IPC Low Density)
pins on every part: 4 GND (power), 8 V+ (power)
part A pins: 1 OUTA (out), 2 INA- (in), 3 INA+ (in)
part B pins: 5 INB+ (in), 6 INB- (in), 7 OUTB (out)

## LM6511IMX
designator U?
180 ns 3V Comparator, 8-pin Narrow SOIC; PartNumber: LM6511IMX; Manufacturer: National Semiconductor; PackageTopMarking: NSZXTT*LM65*11IM; PowerWise: N; High-Reliability: Y; DatasheetVersion: Mar-2003; PackageVersion: revM, May-2009; PackageReference: M08A; PackageDescription: SOIC Narrow, 4.9 x 3.9 x 1.45mm, 8 Lead, 1.27mm Pitch; RoHS: N; PinCount: 8; CompType: Comparator; Code_JEDEC: MS-012-AA; Code_IPC: SOIC127P600-8; ComponentLink1Description: Manufacturer URL; ComponentLink1URL: http://www.national.com/; ComponentLink2Description: LM6511 Datasheet; ComponentLink2URL: http://www.national.com/ds/LM/LM6511.pdf; ComponentLink3Description: LM6511 Web Page; ComponentLink3URL: http://www.national.com/pf/LM/LM6511.html; ComponentLink4Description: M08A Package Page; ComponentLink4URL: http://www.national.com/packaging/folders/m08a.html
footprint M08A_N (SOIC, 8-Leads, Body 4.9x3.9mm, Pitch 1.27mm, IPC Medium Density)
footprint M08A_L (SOIC, 8-Leads, Body 4.9x3.9mm, Pitch 1.27mm, IPC High Density)
footprint M08A_M (SOIC, 8-Leads, Body 4.9x3.9mm, Pitch 1.27mm, IPC Low Density)
pins: 1 GND (power), 2 IN+ (in), 3 IN- (in), 4 V- (power), 5 BAL, 6 BAL/STB, 7 OUT (out), 8 V+ (power)

## LMC6762AIMX
designator U?
Dual Micro-Power Rail-to-Rail Input CMOS Comparator with Push-Pull Output, 8-pin Narrow SOIC; PartNumber: LMC6762AIMX; Manufacturer: National Semiconductor; PackageTopMarking: NSZXTT*LMC67*62AIM; PowerWise: N; High-Reliability: Y; DatasheetVersion: Aug-2000; PackageVersion: revM, May-2009; PackageReference: M08A; PackageDescription: SOIC Narrow, 4.9 x 3.9 x 1.45mm, 8 Lead, 1.27mm Pitch; RoHS: N; PinCount: 8; CompType: Comparator; Code_JEDEC: MS-012-AA; Code_IPC: SOIC127P600-8; ComponentLink1Description: Manufacturer URL; ComponentLink1URL: http://www.national.com/; ComponentLink2Description: LMC6762 Datasheet; ComponentLink2URL: http://www.national.com/ds/LM/LMC6762.pdf; ComponentLink3Description: LMC6762 Web Page; ComponentLink3URL: http://www.national.com/pf/LM/LMC6762.html; ComponentLink4Description: M08A Package Page; ComponentLink4URL: http://www.national.com/packaging/folders/m08a.html
footprint M08A_N (SOIC, 8-Leads, Body 4.9x3.9mm, Pitch 1.27mm, IPC Medium Density)
footprint M08A_L (SOIC, 8-Leads, Body 4.9x3.9mm, Pitch 1.27mm, IPC High Density)
footprint M08A_M (SOIC, 8-Leads, Body 4.9x3.9mm, Pitch 1.27mm, IPC Low Density)
pins on every part: 4 V- (power), 8 V+ (power)
part A pins: 1 OUTA (out), 2 INA- (in), 3 INA+ (in)
part B pins: 5 INB+ (in), 6 INB- (in), 7 OUTB (out)

## LMC6762BIMX
designator U?
Dual Micro-Power Rail-to-Rail Input CMOS Comparator with Push-Pull Output, 8-pin Narrow SOIC; PartNumber: LMC6762BIMX; Manufacturer: National Semiconductor; PackageTopMarking: NSZXTT*LMC67*62BIM; PowerWise: N; High-Reliability: Y; DatasheetVersion: Aug-2000; PackageVersion: revM, May-2009; PackageReference: M08A; PackageDescription: SOIC Narrow, 4.9 x 3.9 x 1.45mm, 8 Lead, 1.27mm Pitch; RoHS: N; PinCount: 8; CompType: Comparator; Code_JEDEC: MS-012-AA; Code_IPC: SOIC127P600-8; ComponentLink1Description: Manufacturer URL; ComponentLink1URL: http://www.national.com/; ComponentLink2Description: LMC6762 Datasheet; ComponentLink2URL: http://www.national.com/ds/LM/LMC6762.pdf; ComponentLink3Description: LMC6762 Web Page; ComponentLink3URL: http://www.national.com/pf/LM/LMC6762.html; ComponentLink4Description: M08A Package Page; ComponentLink4URL: http://www.national.com/packaging/folders/m08a.html
footprint M08A_N (SOIC, 8-Leads, Body 4.9x3.9mm, Pitch 1.27mm, IPC Medium Density)
footprint M08A_L (SOIC, 8-Leads, Body 4.9x3.9mm, Pitch 1.27mm, IPC High Density)
footprint M08A_M (SOIC, 8-Leads, Body 4.9x3.9mm, Pitch 1.27mm, IPC Low Density)
pins on every part: 4 V- (power), 8 V+ (power)
part A pins: 1 OUTA (out), 2 INA- (in), 3 INA+ (in)
part B pins: 5 INB+ (in), 6 INB- (in), 7 OUTB (out)

## LMC6772AIMMX
designator U?
Dual Micro-Power Rail-to-Rail Input CMOS Comparator with Open Drain Output, 8-pin Mini SOIC; PartNumber: LMC6772AIMMX; Manufacturer: National Semiconductor; PackageTopMarking: ZXTT*C21; PowerWise: Y; DatasheetVersion: Jan-2010; PackageVersion: revF, Apr-2008; PackageReference: MUA08A; PackageDescription: MINI SOIC, .118 x .118 x .034in, 8 Lead, .0256in Pitch; RoHS: N; PinCount: 8; CompType: Comparator; High-Reliability: Y; Code_JEDEC: MO-187-AA; ComponentLink1Description: Manufacturer URL; ComponentLink1URL: http://www.national.com/; ComponentLink2Description: LMC6772 Datasheet; ComponentLink2URL: http://www.national.com/ds/LM/LMC6772.pdf; ComponentLink3Description: LMC6772 Web Page; ComponentLink3URL: http://www.national.com/pf/LM/LMC6772.html; ComponentLink4Description: MUA08A Package Page; ComponentLink4URL: http://www.national.com/packaging/folders/mua08a.html
footprint MUA08A_N (TSOP, 8-Leads, Body 3x3mm, Pitch 0.65mm, IPC Medium Density)
footprint MUA08A_L (TSOP, 8-Leads, Body 3x3mm, Pitch 0.65mm, IPC High Density)
footprint MUA08A_M (TSOP, 8-Leads, Body 3x3mm, Pitch 0.65mm, IPC Low Density)
pins on every part: 4 V- (power), 8 V+ (power)
part A pins: 1 OUTA (out), 2 INA- (in), 3 INA+ (in)
part B pins: 5 INB+ (in), 6 INB- (in), 7 OUTB (out)

## LMC6772AIMX
designator U?
Dual Micro-Power Rail-to-Rail Input CMOS Comparator with Open Drain Output, 8-pin Narrow SOIC; PartNumber: LMC6772AIMX; Manufacturer: National Semiconductor; PackageTopMarking: NSZXTT*LMC67*72AIM; PowerWise: Y; DatasheetVersion: Jan-2010; PackageVersion: revM, May-2009; PackageReference: M08A; PackageDescription: SOIC Narrow, 4.9 x 3.9 x 1.45mm, 8 Lead, 1.27mm Pitch; RoHS: N; PinCount: 8; CompType: Comparator; High-Reliability: Y; Code_JEDEC: MS-012-AA; Code_IPC: SOIC127P600-8; ComponentLink1Description: Manufacturer URL; ComponentLink1URL: http://www.national.com/; ComponentLink2Description: LMC6772 Datasheet; ComponentLink2URL: http://www.national.com/ds/LM/LMC6772.pdf; ComponentLink3Description: LMC6772 Web Page; ComponentLink3URL: http://www.national.com/pf/LM/LMC6772.html; ComponentLink4Description: M08A Package Page; ComponentLink4URL: http://www.national.com/packaging/folders/m08a.html
footprint M08A_N (SOIC, 8-Leads, Body 4.9x3.9mm, Pitch 1.27mm, IPC Medium Density)
footprint M08A_L (SOIC, 8-Leads, Body 4.9x3.9mm, Pitch 1.27mm, IPC High Density)
footprint M08A_M (SOIC, 8-Leads, Body 4.9x3.9mm, Pitch 1.27mm, IPC Low Density)
pins on every part: 4 V- (power), 8 V+ (power)
part A pins: 1 OUTA (out), 2 INA- (in), 3 INA+ (in)
part B pins: 5 INB+ (in), 6 INB- (in), 7 OUTB (out)

## LMC6772BIMX
designator U?
Dual Micro-Power Rail-to-Rail Input CMOS Comparator with Open Drain Output, 8-pin Narrow SOIC; PartNumber: LMC6772BIMX; Manufacturer: National Semiconductor; PackageTopMarking: NSZXTT*LMC67*72BIM; PowerWise: Y; DatasheetVersion: Jan-2010; PackageVersion: revM, May-2009; PackageReference: M08A; PackageDescription: SOIC Narrow, 4.9 x 3.9 x 1.45mm, 8 Lead, 1.27mm Pitch; RoHS: N; PinCount: 8; CompType: Comparator; High-Reliability: Y; Code_JEDEC: MS-012-AA; Code_IPC: SOIC127P600-8; ComponentLink1Description: Manufacturer URL; ComponentLink1URL: http://www.national.com/; ComponentLink2Description: LMC6772 Datasheet; ComponentLink2URL: http://www.national.com/ds/LM/LMC6772.pdf; ComponentLink3Description: LMC6772 Web Page; ComponentLink3URL: http://www.national.com/pf/LM/LMC6772.html; ComponentLink4Description: M08A Package Page; ComponentLink4URL: http://www.national.com/packaging/folders/m08a.html
footprint M08A_N (SOIC, 8-Leads, Body 4.9x3.9mm, Pitch 1.27mm, IPC Medium Density)
footprint M08A_L (SOIC, 8-Leads, Body 4.9x3.9mm, Pitch 1.27mm, IPC High Density)
footprint M08A_M (SOIC, 8-Leads, Body 4.9x3.9mm, Pitch 1.27mm, IPC Low Density)
pins on every part: 4 V- (power), 8 V+ (power)
part A pins: 1 OUTA (out), 2 INA- (in), 3 INA+ (in)
part B pins: 5 INB+ (in), 6 INB- (in), 7 OUTB (out)

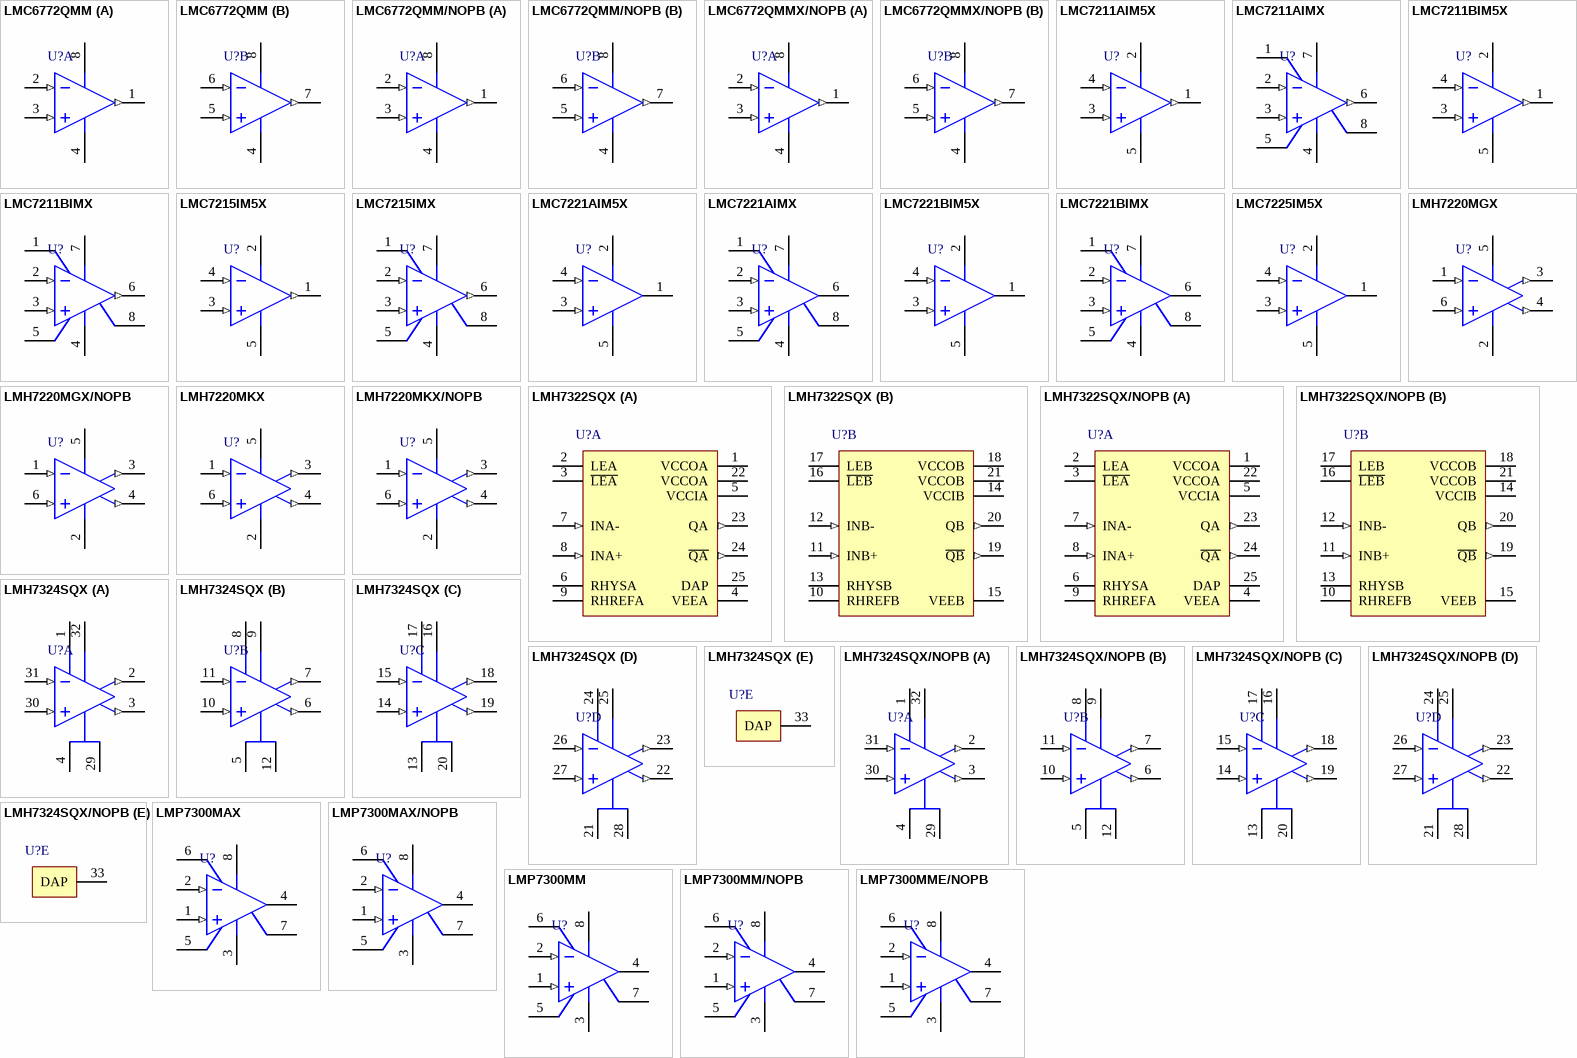
[diagram p2: symbols LMC6772QMM to LMP7300MME/NOPB]

## LMC6772QMM
designator U?
Dual MicroPower Rail-to-Rail Input CMOS Comparator with Open Drain Output, 8-pin Mini SOIC; PartNumber: LMC6772QMM; Manufacturer: National Semiconductor; PackageTopMarking: ZXTT*AX5A; PowerWise: N; High-Reliability: Y; DatasheetVersion: Jan-2010; PackageVersion: revF, Apr-2008; PackageReference: MUA08A; PackageDescription: MINI SOIC, .118 x .118 x .034in, 8 Lead, .0256in Pitch; RoHS: Y; PinCount: 8; CompType: Comparator; Code_JEDEC: MO-187-AA; ComponentLink1Description: Manufacturer URL; ComponentLink1URL: http://www.national.com/; ComponentLink2Description: LMC6772 Datasheet; ComponentLink2URL: http://www.national.com/ds/LM/LMC6772.pdf; ComponentLink3Description: LMC6772 Web Page; ComponentLink3URL: http://www.national.com/pf/LM/LMC6772.html; ComponentLink4Description: MUA08A Package Page; ComponentLink4URL: http://www.national.com/packaging/folders/mua08a.html
footprint MUA08A_N (TSOP, 8-Leads, Body 3x3mm, Pitch 0.65mm, IPC Medium Density)
footprint MUA08A_L (TSOP, 8-Leads, Body 3x3mm, Pitch 0.65mm, IPC High Density)
footprint MUA08A_M (TSOP, 8-Leads, Body 3x3mm, Pitch 0.65mm, IPC Low Density)
pins on every part: 4 V- (power), 8 V+ (power)
part A pins: 1 OUTA (out), 2 INA- (in), 3 INA+ (in)
part B pins: 5 INB+ (in), 6 INB- (in), 7 OUTB (out)

## LMC6772QMM/NOPB
designator U?
Dual Micro-Power Rail-to-Rail Input CMOS Comparator with Open Drain Output, 8-pin Mini SOIC, Pb-Free; PartNumber: LMC6772QMM/NOPB; Manufacturer: National Semiconductor; PackageTopMarking: ZXTT*AX5A; PowerWise: Y; DatasheetVersion: Jan-2010; PackageVersion: revF, Apr-2008; PackageReference: MUA08A; PackageDescription: MINI SOIC, .118 x .118 x .034in, 8 Lead, .0256in Pitch; RoHS: Y; PinCount: 8; CompType: Comparator; High-Reliability: Y; Code_JEDEC: MO-187-AA; ComponentLink1Description: Manufacturer URL; ComponentLink1URL: http://www.national.com/; ComponentLink2Description: LMC6772 Datasheet; ComponentLink2URL: http://www.national.com/ds/LM/LMC6772.pdf; ComponentLink3Description: LMC6772 Web Page; ComponentLink3URL: http://www.national.com/pf/LM/LMC6772.html; ComponentLink4Description: MUA08A Package Page; ComponentLink4URL: http://www.national.com/packaging/folders/mua08a.html
footprint MUA08A_N (TSOP, 8-Leads, Body 3x3mm, Pitch 0.65mm, IPC Medium Density)
footprint MUA08A_L (TSOP, 8-Leads, Body 3x3mm, Pitch 0.65mm, IPC High Density)
footprint MUA08A_M (TSOP, 8-Leads, Body 3x3mm, Pitch 0.65mm, IPC Low Density)
pins on every part: 4 V- (power), 8 V+ (power)
part A pins: 1 OUTA (out), 2 INA- (in), 3 INA+ (in)
part B pins: 5 INB+ (in), 6 INB- (in), 7 OUTB (out)

## LMC6772QMMX/NOPB
designator U?
Dual Micro-Power Rail-to-Rail Input CMOS Comparator with Open Drain Output, 8-pin Mini SOIC, Pb-Free; PartNumber: LMC6772QMMX/NOPB; Manufacturer: National Semiconductor; PackageTopMarking: ZXTT*AX5A; PowerWise: Y; DatasheetVersion: Jan-2010; PackageVersion: revF, Apr-2008; PackageReference: MUA08A; PackageDescription: MINI SOIC, .118 x .118 x .034in, 8 Lead, .0256in Pitch; RoHS: Y; PinCount: 8; CompType: Comparator; High-Reliability: Y; Code_JEDEC: MO-187-AA; ComponentLink1Description: Manufacturer URL; ComponentLink1URL: http://www.national.com/; ComponentLink2Description: LMC6772 Datasheet; ComponentLink2URL: http://www.national.com/ds/LM/LMC6772.pdf; ComponentLink3Description: LMC6772 Web Page; ComponentLink3URL: http://www.national.com/pf/LM/LMC6772.html; ComponentLink4Description: MUA08A Package Page; ComponentLink4URL: http://www.national.com/packaging/folders/mua08a.html
footprint MUA08A_N (TSOP, 8-Leads, Body 3x3mm, Pitch 0.65mm, IPC Medium Density)
footprint MUA08A_L (TSOP, 8-Leads, Body 3x3mm, Pitch 0.65mm, IPC High Density)
footprint MUA08A_M (TSOP, 8-Leads, Body 3x3mm, Pitch 0.65mm, IPC Low Density)
pins on every part: 4 V- (power), 8 V+ (power)
part A pins: 1 OUTA (out), 2 INA- (in), 3 INA+ (in)
part B pins: 5 INB+ (in), 6 INB- (in), 7 OUTB (out)

## LMC7211AIM5X
designator U?
Tiny CMOS Comparator with Rail-to-Rail Input, 5-pin SOT-23; PartNumber: LMC7211AIM5X; Manufacturer: National Semiconductor; PackageTopMarking: C00A*XTT; PowerWise: N; High-Reliability: Y; DatasheetVersion: Jan-2010; PackageVersion: revD, Aug-2008; PackageReference: MF05A; PackageDescription: Molded SOT-23, .115 x .063 x .040 in Body, 5 Lead, .0375 in Pitch; RoHS: N; PinCount: 5; CompType: Comparator; ComponentLink1Description: Manufacturer URL; ComponentLink1URL: http://www.national.com/; ComponentLink2Description: LMC7211 Datasheet; ComponentLink2URL: http://www.national.com/ds/LM/LMC7211.pdf; ComponentLink3Description: LMC7211 Web Page; ComponentLink3URL: http://www.national.com/pf/LM/LMC7211.html; ComponentLink4Description: MF05A Package Page; ComponentLink4URL: http://www.national.com/packaging/folders/mf05a.html
footprint MF05A_N (SOT23, 5-Leads, Body 2.9x1.6mm, Pitch 0.95mm, Lead Span 2.8mm, IPC Medium Density)
footprint MF05A_L (SOT23, 5-Leads, Body 2.9x1.6mm, Pitch 0.95mm, Lead Span 2.8mm, IPC High Density)
footprint MF05A_M (SOT23, 5-Leads, Body 2.9x1.6mm, Pitch 0.95mm, Lead Span 2.8mm, IPC Low Density)
pins: 1 OUT (out), 2 V+ (power), 3 IN+ (in), 4 IN- (in), 5 V- (power)

## LMC7211AIMX
designator U?
Tiny CMOS Comparator with Rail-to-Rail Input, 8-pin Narrow SOIC; PartNumber: LMC7211AIMX; Manufacturer: National Semiconductor; PackageTopMarking: NSZXTT*LMC72*11AIM; PowerWise: N; High-Reliability: Y; DatasheetVersion: Jan-2010; PackageVersion: revM, May-2009; PackageReference: M08A; PackageDescription: SOIC Narrow, 4.9 x 3.9 x 1.45mm, 8 Lead, 1.27mm Pitch; RoHS: N; PinCount: 8; CompType: Comparator; Code_JEDEC: MS-012-AA; Code_IPC: SOIC127P600-8; ComponentLink1Description: Manufacturer URL; ComponentLink1URL: http://www.national.com/; ComponentLink2Description: LMC7211 Datasheet; ComponentLink2URL: http://www.national.com/ds/LM/LMC7211.pdf; ComponentLink3Description: LMC7211 Web Page; ComponentLink3URL: http://www.national.com/pf/LM/LMC7211.html; ComponentLink4Description: M08A Package Page; ComponentLink4URL: http://www.national.com/packaging/folders/m08a.html
footprint M08A_N (SOIC, 8-Leads, Body 4.9x3.9mm, Pitch 1.27mm, IPC Medium Density)
footprint M08A_L (SOIC, 8-Leads, Body 4.9x3.9mm, Pitch 1.27mm, IPC High Density)
footprint M08A_M (SOIC, 8-Leads, Body 4.9x3.9mm, Pitch 1.27mm, IPC Low Density)
pins: 1 NC, 2 IN- (in), 3 IN+ (in), 4 V- (power), 5 NC, 6 OUT (out), 7 V+ (power), 8 NC